# Altium schematic symbol library 5x20_PTF_771_20A.SCHLIB: 1 symbol
Pins are listed as number, name and electrical type; pins without a type are passive.

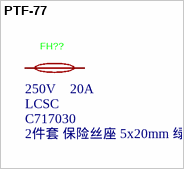
[diagram p0: symbol PTF-77]

## PTF-77
designator FH??  LCSC Part Name: 2件套 保险丝座 5x20mm 绿色  Supplier Part: C717030  Supplier: LCSC  Voltage Rating: 250V  Current Rating: 20A  (hidden comment: PTF-77)
Manufacturer: XFCN(兴飞); Add into BOM: yes; Fuseholder Type: Bracket type; Number of Circuits: 1; Fuse Type: Cylindrical; Fuse Diameter (φD): 5mm; Fuse Length: 20mm; Symbol: PTF-77; Device: PTF-77; Manufacturer Part: PTF-77; Supplier Footprint: 插件,P=22.5mm; JLCPCB Part Class: Extended Part; Datasheet: https://item.szlcsc.com/datasheet/PTF-77/757629.html; Convert to PCB: yes
footprint FUSE-TH_L24.4-W9.4-P22.60
3D model FUSE-TH_L24.4-W9.4-H11.5-P22.60
pins: 1, 2